# Altium schematic symbol library WF-4.SchLib: 1 symbol
Pins are listed as number, name and electrical type; pins without a type are passive.

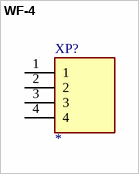
[diagram p0: symbol WF-4]

## WF-4
designator XP?
WF-4; MP: 640456-4; Package: None; Value: *; Availability: Unavailable; Price: None
footprint TE_640456-4
pins: 1, 2, 3, 4